# EAGLE library part INA145 (library ti)
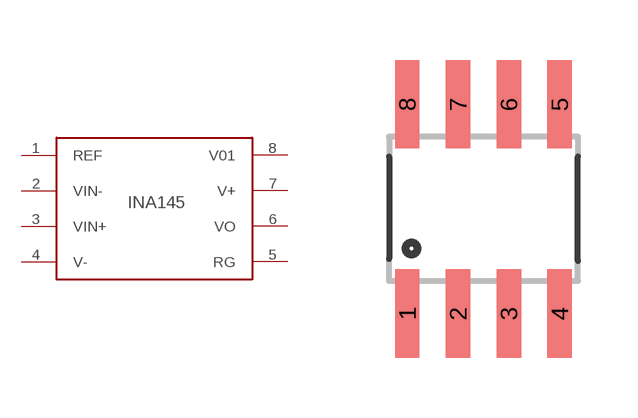
[diagram p17: symbol with the pads of SO08; footprint SO08]

Designator prefix -

## INA145  [SO08]
1  REF
2  VIN-
3  VIN+
4  V-
5  RG
6  VO
7  V+
8  V01

## Footprint SO08 (pad centres in mm)
Small Outline Package Fits JEDEC packages (narrow SOIC-8)
smd 0.61 x 2.21: 1 -1.905,-2.616; 2 -0.635,-2.616; 3 0.635,-2.616; 4 1.905,-2.616; 5 1.905,2.616; 6 0.635,2.616; 7 -0.635,2.616; 8 -1.905,2.616